# EAGLE library part SST25VF512A-33-4C-SAE (library receiver_2v0)
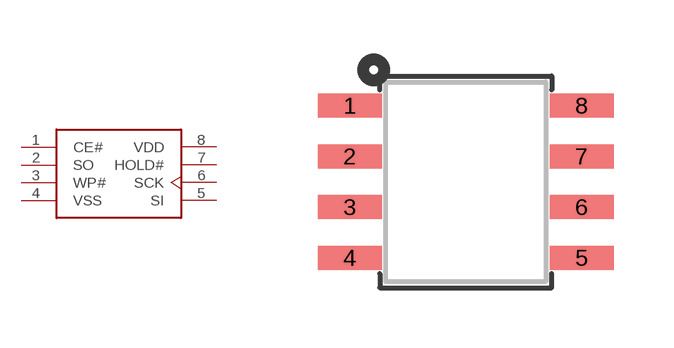
[diagram p10: symbol with the pads of SOIC-8; footprint SOIC-8]

Designator prefix U

## SST25VF512A-33-4C-SAE  [SOIC-8]
1  CE#
2  SO
3  WP#
4  VSS
5  SI
6  SCK
7  HOLD#
8  VDD

## Footprint SOIC-8 (pad centres in mm)
smd 1.6 x 0.6: 1 -2.9,1.91; 2 -2.9,0.64; 3 -2.9,-0.63; 4 -2.9,-1.9; 5 2.9,-1.9; 6 2.9,-0.63; 7 2.9,0.64; 8 2.9,1.91